# Altium schematic symbol library 3 Pin 100 mil Horizontal Header.SchLib: 1 symbol
Pins are listed as number, name and electrical type; pins without a type are passive.

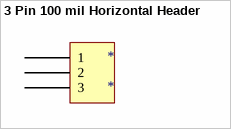
[diagram p0: symbol 3 Pin 100 mil Horizontal Header]

## 3 Pin 100 mil Horizontal Header
designator *
footprint 3 Pin 100 mil Horizontal Header
pins: 1, 2, 3